# Altium integrated library 35TQC10MYF.IntLib: 1 symbol
Pins are listed as number, name and electrical type; pins without a type are passive.

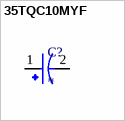
[diagram p0: symbol 35TQC10MYF]

## 35TQC10MYF
designator C?
Cap Tant Solid 10uF 35V D2 CASE 20% (7.3 X 4.3 X 1.9mm) SMD 7343-20 0.12 Ohm 105Â°C T/R; MP: 35TQC10MYF; MF: Panasonic; Price: None; SnapEDA_Link: https://www.snapeda.com/parts/35TQC10MYF/Panasonic/view-part/?ref=snap; Availability: In Stock; Purchase-URL: https://pricing.snapeda.com/search/part/35TQC10MYF/?ref=eda; Value: *; Check_prices: https://www.snapeda.com/parts/35TQC10MYF/Panasonic/view-part/?ref=eda; Package: 7343-2 Panasonic
footprint CAP_35TQC10MYF
pins: 1, 2